# Altium footprint library LTC1668IGTRPBF.PcbLib: 3 footprints
Each footprint in its own frame and in the unit in brackets; x right, y up, seen from the top. Pads: shape width x height; smd on the part's side, far side on the other; paste and mask are expansions set on the pad; w line width, h text height; cw(c..) or ccw(c..) is an arc to the next point about the centre after c.
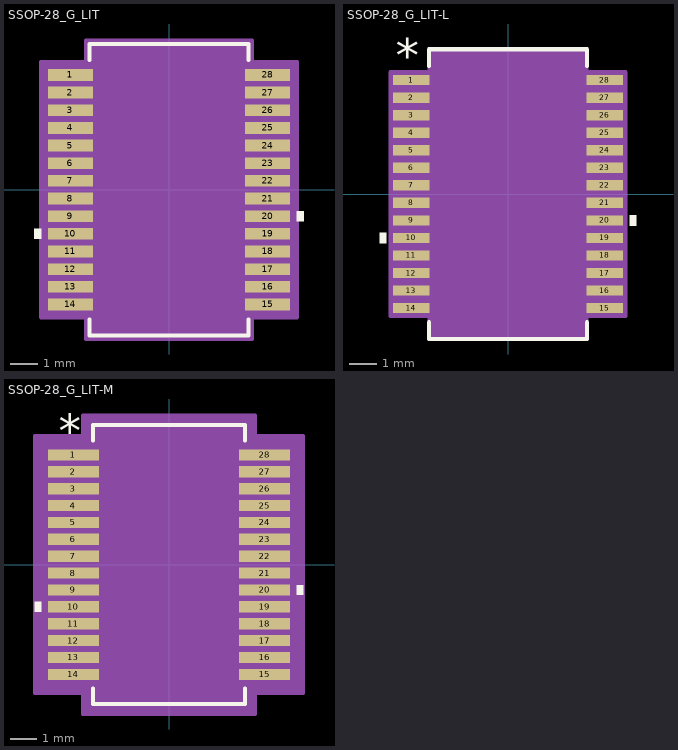
[diagram p0: the footprints below, top view; thin cyan lines are the x and y axes]

## SSOP-28_G_LIT [mil]
pads (28):
  rect 65x17 smd paste+0 mask+0: 1(-143,166.4) 2(-143,140.8) 3(-143,115.2) 4(-143,89.6) 5(-143,64) 6(-143,38.4) 7(-143,12.8) 8(-143,-12.8) 9(-143,-38.4) 10(-143,-64) 11(-143,-89.6) 12(-143,-115.2) 13(-143,-140.8) 14(-143,-166.4) 15(143,-166.4) 16(143,-140.8) 17(143,-115.2) 18(143,-89.6) 19(143,-64) 20(143,-38.4) 21(143,-12.8) 22(143,12.8) 23(143,38.4) 24(143,64) 25(143,89.6) 26(143,115.2) 27(143,140.8) 28(143,166.4)
Top Overlay:
  region: 185.5,-30.9 195.5,-30.9 195.5,-45.9 185.5,-45.9
  region: -185.5,-56.5 -195.5,-56.5 -195.5,-71.5 -185.5,-71.5
  lines w6: -115.5,-188 -115.5,-211.5 115.5,-211.5 115.5,-188 ; -115.5,188 -115.5,211.5 115.5,211.5 115.5,188
Mechanical 13:
  lines w0: -12,206.5 ccw(c0,206.5) 12,206.5
  lines w1: -161.5,-173.9 -110.5,-173.9 -110.5,-158.9 -161.5,-158.9 -161.5,-173.9 ; -161.5,-148.3 -110.5,-148.3 -110.5,-133.3 -161.5,-133.3 -161.5,-148.3 ; -161.5,-122.7 -110.5,-122.7 -110.5,-107.7 -161.5,-107.7 -161.5,-122.7 ; -161.5,-97.1 -110.5,-97.1 -110.5,-82.1 -161.5,-82.1 -161.5,-97.1 ; -161.5,-71.5 -110.5,-71.5 -110.5,-56.5 -161.5,-56.5 -161.5,-71.5 ; -161.5,-45.9 -110.5,-45.9 -110.5,-30.9 -161.5,-30.9 -161.5,-45.9 ; -161.5,-20.3 -110.5,-20.3 -110.5,-5.3 -161.5,-5.3 -161.5,-20.3 ; -161.5,5.3 -110.5,5.3 -110.5,20.3 -161.5,20.3 -161.5,5.3 ; -161.5,30.9 -110.5,30.9 -110.5,45.9 -161.5,45.9 -161.5,30.9 ; -161.5,56.5 -110.5,56.5 -110.5,71.5 -161.5,71.5 -161.5,56.5 ; -161.5,82.1 -110.5,82.1 -110.5,97.1 -161.5,97.1 -161.5,82.1 ; -161.5,107.7 -110.5,107.7 -110.5,122.7 -161.5,122.7 -161.5,107.7 ; -161.5,133.3 -110.5,133.3 -110.5,148.3 -161.5,148.3 -161.5,133.3 ; -161.5,158.9 -110.5,158.9 -110.5,173.9 -161.5,173.9 -161.5,158.9 ; -110.5,-206.5 -110.5,206.5 110.5,206.5 110.5,-206.5 -110.5,-206.5 ; 110.5,-173.9 161.5,-173.9 161.5,-158.9 110.5,-158.9 110.5,-173.9 ; 110.5,-148.3 161.5,-148.3 161.5,-133.3 110.5,-133.3 110.5,-148.3 ; 110.5,-122.7 161.5,-122.7 161.5,-107.7 110.5,-107.7 110.5,-122.7 ; 110.5,-97.1 161.5,-97.1 161.5,-82.1 110.5,-82.1 110.5,-97.1 ; 110.5,-71.5 161.5,-71.5 161.5,-56.5 110.5,-56.5 110.5,-71.5 ; 110.5,-45.9 161.5,-45.9 161.5,-30.9 110.5,-30.9 110.5,-45.9 ; 110.5,-20.3 161.5,-20.3 161.5,-5.3 110.5,-5.3 110.5,-20.3 ; 110.5,5.3 161.5,5.3 161.5,20.3 110.5,20.3 110.5,5.3 ; 110.5,30.9 161.5,30.9 161.5,45.9 110.5,45.9 110.5,30.9 ; 110.5,56.5 161.5,56.5 161.5,71.5 110.5,71.5 110.5,56.5 ; 110.5,82.1 161.5,82.1 161.5,97.1 110.5,97.1 110.5,82.1 ; 110.5,107.7 161.5,107.7 161.5,122.7 110.5,122.7 110.5,107.7 ; 110.5,133.3 161.5,133.3 161.5,148.3 110.5,148.3 110.5,133.3 ; 110.5,158.9 161.5,158.9 161.5,173.9 110.5,173.9 110.5,158.9
  text "*" at -108,153.5 h50
Mechanical 15:
  region: -120.5,-184.9 -185.5,-184.9 -185.5,184.9 -120.5,184.9 -120.5,216.5 120.5,216.5 120.5,184.9 185.5,184.9 185.5,-184.9 120.5,-184.9 120.5,-216.5 -120.5,-216.5
  lines w6: -185.5,-184.9 -120.5,-184.9 -120.5,-216.5 120.5,-216.5 120.5,-184.9 185.5,-184.9 185.5,184.9 120.5,184.9 120.5,216.5 -120.5,216.5 -120.5,184.9 -185.5,184.9 -185.5,-184.9
3D body "SSOP-28_G_LIT.step": height 67.09, standoff 0, extent -161.5,-206.5 161.5,206.5

## SSOP-28_G_LIT-L [mil]
pads (28):
  rect 53x15 smd paste+0 mask+0: 1(-141,166.4) 2(-141,140.8) 3(-141,115.2) 4(-141,89.6) 5(-141,64) 6(-141,38.4) 7(-141,12.8) 8(-141,-12.8) 9(-141,-38.4) 10(-141,-64) 11(-141,-89.6) 12(-141,-115.2) 13(-141,-140.8) 14(-141,-166.4) 15(141,-166.4) 16(141,-140.8) 17(141,-115.2) 18(141,-89.6) 19(141,-64) 20(141,-38.4) 21(141,-12.8) 22(141,12.8) 23(141,38.4) 24(141,64) 25(141,89.6) 26(141,115.2) 27(141,140.8) 28(141,166.4)
Top Overlay:
  region: -177.5,-56.5 -187.5,-56.5 -187.5,-71.5 -177.5,-71.5
  region: 177.5,-30.9 187.5,-30.9 187.5,-45.9 177.5,-45.9
  lines w6: -115.5,-187 -115.5,-211.5 115.5,-211.5 115.5,-187 ; -115.5,187 -115.5,211.5 115.5,211.5 115.5,187
  text "*" at -163.5,176.4 h50
Mechanical 13:
  lines w0: -12,206.5 ccw(c0,206.5) 12,206.5
  lines w1: -161.5,-173.9 -161.5,-158.9 -110.5,-158.9 -110.5,-173.9 -161.5,-173.9 ; -161.5,-148.3 -161.5,-133.3 -110.5,-133.3 -110.5,-148.3 -161.5,-148.3 ; -161.5,-122.7 -161.5,-107.7 -110.5,-107.7 -110.5,-122.7 -161.5,-122.7 ; -161.5,-97.1 -161.5,-82.1 -110.5,-82.1 -110.5,-97.1 -161.5,-97.1 ; -161.5,-71.5 -161.5,-56.5 -110.5,-56.5 -110.5,-71.5 -161.5,-71.5 ; -161.5,-45.9 -161.5,-30.9 -110.5,-30.9 -110.5,-45.9 -161.5,-45.9 ; -161.5,-20.3 -161.5,-5.3 -110.5,-5.3 -110.5,-20.3 -161.5,-20.3 ; -161.5,5.3 -161.5,20.3 -110.5,20.3 -110.5,5.3 -161.5,5.3 ; -161.5,30.9 -161.5,45.9 -110.5,45.9 -110.5,30.9 -161.5,30.9 ; -161.5,56.5 -161.5,71.5 -110.5,71.5 -110.5,56.5 -161.5,56.5 ; -161.5,82.1 -161.5,97.1 -110.5,97.1 -110.5,82.1 -161.5,82.1 ; -161.5,107.7 -161.5,122.7 -110.5,122.7 -110.5,107.7 -161.5,107.7 ; -161.5,133.3 -161.5,148.3 -110.5,148.3 -110.5,133.3 -161.5,133.3 ; -161.5,158.9 -161.5,173.9 -110.5,173.9 -110.5,158.9 -161.5,158.9 ; -110.5,-206.5 110.5,-206.5 110.5,206.5 -110.5,206.5 -110.5,-206.5 ; 110.5,-173.9 110.5,-158.9 161.5,-158.9 161.5,-173.9 110.5,-173.9 ; 110.5,-148.3 110.5,-133.3 161.5,-133.3 161.5,-148.3 110.5,-148.3 ; 110.5,-122.7 110.5,-107.7 161.5,-107.7 161.5,-122.7 110.5,-122.7 ; 110.5,-97.1 110.5,-82.1 161.5,-82.1 161.5,-97.1 110.5,-97.1 ; 110.5,-71.5 110.5,-56.5 161.5,-56.5 161.5,-71.5 110.5,-71.5 ; 110.5,-45.9 110.5,-30.9 161.5,-30.9 161.5,-45.9 110.5,-45.9 ; 110.5,-20.3 110.5,-5.3 161.5,-5.3 161.5,-20.3 110.5,-20.3 ; 110.5,5.3 110.5,20.3 161.5,20.3 161.5,5.3 110.5,5.3 ; 110.5,30.9 110.5,45.9 161.5,45.9 161.5,30.9 110.5,30.9 ; 110.5,56.5 110.5,71.5 161.5,71.5 161.5,56.5 110.5,56.5 ; 110.5,82.1 110.5,97.1 161.5,97.1 161.5,82.1 110.5,82.1 ; 110.5,107.7 110.5,122.7 161.5,122.7 161.5,107.7 110.5,107.7 ; 110.5,133.3 110.5,148.3 161.5,148.3 161.5,133.3 110.5,133.3 ; 110.5,158.9 110.5,173.9 161.5,173.9 161.5,158.9 110.5,158.9
  text "*" at -108,153.5 h50
Mechanical 15:
  region: -114.5,-177.9 -171.5,-177.9 -171.5,177.9 -114.5,177.9 -114.5,210.5 114.5,210.5 114.5,177.9 171.5,177.9 171.5,-177.9 114.5,-177.9 114.5,-210.5 -114.5,-210.5
  lines w6: -171.5,-177.9 -171.5,177.9 -114.5,177.9 -114.5,210.5 114.5,210.5 114.5,177.9 171.5,177.9 171.5,-177.9 114.5,-177.9 114.5,-210.5 -114.5,-210.5 -114.5,-177.9 -171.5,-177.9
3D body "SSOP-28_G_LIT.step": height 67.09, standoff 0, extent -161.5,-206.5 161.5,206.5

## SSOP-28_G_LIT-M [mil]
pads (28):
  rect 77x17 smd paste+0 mask+0: 1(-145,166.4) 2(-145,140.8) 3(-145,115.2) 4(-145,89.6) 5(-145,64) 6(-145,38.4) 7(-145,12.8) 8(-145,-12.8) 9(-145,-38.4) 10(-145,-64) 11(-145,-89.6) 12(-145,-115.2) 13(-145,-140.8) 14(-145,-166.4) 15(145,-166.4) 16(145,-140.8) 17(145,-115.2) 18(145,-89.6) 19(145,-64) 20(145,-38.4) 21(145,-12.8) 22(145,12.8) 23(145,38.4) 24(145,64) 25(145,89.6) 26(145,115.2) 27(145,140.8) 28(145,166.4)
Top Overlay:
  region: -193.5,-56.5 -203.5,-56.5 -203.5,-71.5 -193.5,-71.5
  region: 193.5,-30.9 203.5,-30.9 203.5,-45.9 193.5,-45.9
  lines w6: -115.5,-188 -115.5,-211.5 115.5,-211.5 115.5,-188 ; -115.5,188 -115.5,211.5 115.5,211.5 115.5,188
  text "*" at -167.5,178.4 h50
Mechanical 13:
  lines w0: -12,206.5 ccw(c0,206.5) 12,206.5
  lines w1: -161.5,-173.9 -161.5,-158.9 -110.5,-158.9 -110.5,-173.9 -161.5,-173.9 ; -161.5,-148.3 -161.5,-133.3 -110.5,-133.3 -110.5,-148.3 -161.5,-148.3 ; -161.5,-122.7 -161.5,-107.7 -110.5,-107.7 -110.5,-122.7 -161.5,-122.7 ; -161.5,-97.1 -161.5,-82.1 -110.5,-82.1 -110.5,-97.1 -161.5,-97.1 ; -161.5,-71.5 -161.5,-56.5 -110.5,-56.5 -110.5,-71.5 -161.5,-71.5 ; -161.5,-45.9 -161.5,-30.9 -110.5,-30.9 -110.5,-45.9 -161.5,-45.9 ; -161.5,-20.3 -161.5,-5.3 -110.5,-5.3 -110.5,-20.3 -161.5,-20.3 ; -161.5,5.3 -161.5,20.3 -110.5,20.3 -110.5,5.3 -161.5,5.3 ; -161.5,30.9 -161.5,45.9 -110.5,45.9 -110.5,30.9 -161.5,30.9 ; -161.5,56.5 -161.5,71.5 -110.5,71.5 -110.5,56.5 -161.5,56.5 ; -161.5,82.1 -161.5,97.1 -110.5,97.1 -110.5,82.1 -161.5,82.1 ; -161.5,107.7 -161.5,122.7 -110.5,122.7 -110.5,107.7 -161.5,107.7 ; -161.5,133.3 -161.5,148.3 -110.5,148.3 -110.5,133.3 -161.5,133.3 ; -161.5,158.9 -161.5,173.9 -110.5,173.9 -110.5,158.9 -161.5,158.9 ; -110.5,-206.5 110.5,-206.5 110.5,206.5 -110.5,206.5 -110.5,-206.5 ; 110.5,-173.9 110.5,-158.9 161.5,-158.9 161.5,-173.9 110.5,-173.9 ; 110.5,-148.3 110.5,-133.3 161.5,-133.3 161.5,-148.3 110.5,-148.3 ; 110.5,-122.7 110.5,-107.7 161.5,-107.7 161.5,-122.7 110.5,-122.7 ; 110.5,-97.1 110.5,-82.1 161.5,-82.1 161.5,-97.1 110.5,-97.1 ; 110.5,-71.5 110.5,-56.5 161.5,-56.5 161.5,-71.5 110.5,-71.5 ; 110.5,-45.9 110.5,-30.9 161.5,-30.9 161.5,-45.9 110.5,-45.9 ; 110.5,-20.3 110.5,-5.3 161.5,-5.3 161.5,-20.3 110.5,-20.3 ; 110.5,5.3 110.5,20.3 161.5,20.3 161.5,5.3 110.5,5.3 ; 110.5,30.9 110.5,45.9 161.5,45.9 161.5,30.9 110.5,30.9 ; 110.5,56.5 110.5,71.5 161.5,71.5 161.5,56.5 110.5,56.5 ; 110.5,82.1 110.5,97.1 161.5,97.1 161.5,82.1 110.5,82.1 ; 110.5,107.7 110.5,122.7 161.5,122.7 161.5,107.7 110.5,107.7 ; 110.5,133.3 110.5,148.3 161.5,148.3 161.5,133.3 110.5,133.3 ; 110.5,158.9 110.5,173.9 161.5,173.9 161.5,158.9 110.5,158.9
  text "*" at -108,153.5 h50
Mechanical 15:
  region: -130.5,-194.9 -203.5,-194.9 -203.5,194.9 -130.5,194.9 -130.5,226.5 130.5,226.5 130.5,194.9 203.5,194.9 203.5,-194.9 130.5,-194.9 130.5,-226.5 -130.5,-226.5
  lines w6: -203.5,-194.9 -203.5,194.9 -130.5,194.9 -130.5,226.5 130.5,226.5 130.5,194.9 203.5,194.9 203.5,-194.9 130.5,-194.9 130.5,-226.5 -130.5,-226.5 -130.5,-194.9 -203.5,-194.9
3D body "SSOP-28_G_LIT.step": height 67.09, standoff 0, extent -161.5,-206.5 161.5,206.5